# Altium schematic symbol library TL331QDBVRQ1.SchLib: 1 symbol
Pins are listed as number, name and electrical type; pins without a type are passive.

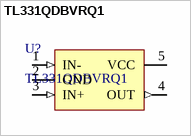
[diagram p0: symbol TL331QDBVRQ1]

## TL331QDBVRQ1
designator U?
Analog Comparators AC Sgl Diff Comp- arator; Manufacturer: Texas Instruments; Max Supply Voltage: 36V; PN: TL331QDBVRQ1; Footprint: SOT-23-5; Package: SOT-23-5; Supplier 1: Mouser; Supplier Part Number 1: 595-TL331QDBVRQ1; ComponentLink1Description: Datasheet; ComponentLink1URL: https://www.mouser.com/ProductDetail/Texas-Instruments/TL331QDBVRQ1?qs=%2Fha2pyFaduinzyPiy%2F%252B0ZBb3%252Bz8K1Y9lOjPar2YK5DoG39eUgGPO7Q%3D%3D&utm_source=octopart&utm_medium=aggregator&utm_campaign=595-TL331QDBVRQ1&utm_content=Texas%20Instruments
footprint SOT-23-5
pins: 1 IN- (in), 2 GND (power), 3 IN+ (in), 4 OUT (out), 5 VCC (power)